# EAGLE library part DEVICE_OF_SDC_CONNECTOR (library SDC_Connector)
Footprint of SDC Connector_200250330064
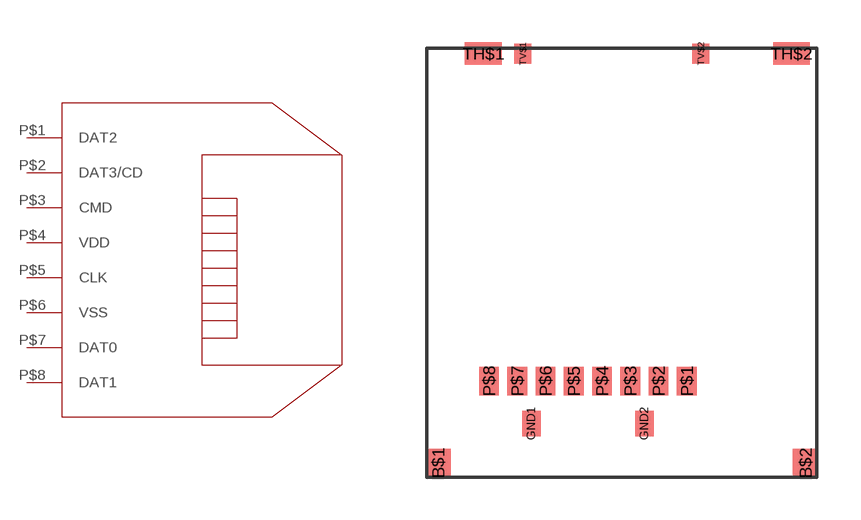
[diagram p0: symbol with the pads of FOOTPRINT_OF_SDC_CONNECTOR; footprint FOOTPRINT_OF_SDC_CONNECTOR]

Designator prefix SDC

## DEVICE_OF_SDC_CONNECTOR  [FOOTPRINT_OF_SDC_CONNECTOR]
P$1  DAT2
P$2  DAT3/CD
P$3  CMD
P$4  VDD  pwr
P$5  CLK
P$6  VSS  pwr
P$7  DAT0
P$8  DAT1

## Footprint FOOTPRINT_OF_SDC_CONNECTOR (pad centres in mm)
Footprint of SDC Connector_200250330064
smd 0.9 x 1: B$1 0.4,0.5; B$2 13.4,0.5
smd 0.65 x 0.9: GND1 3.7,1.9; GND2 7.7,1.9
smd 0.7 x 1: P$1 9.2,3.4; P$2 8.2,3.4; P$3 7.2,3.4; P$4 6.2,3.4; P$5 5.2,3.4; P$6 4.2,3.4; P$7 3.2,3.4; P$8 2.2,3.4
smd 1.3 x 0.8: TH$1 2,15; TH$2 12.9,15
smd 0.6 x 0.7: TV$1 3.4,15; TV$2 9.7,15